# EAGLE library part CEM3330 (library CEM)
CEM 3330 dual VCA
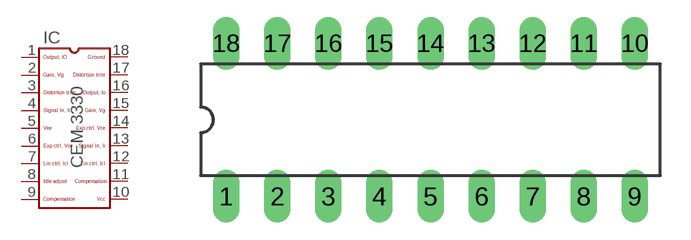
[diagram p3: symbol with the pads of DIL18; footprint DIL18]

Designator prefix IC

## CEM3330  [DIL18]
1  1  out
2  2
3  3
4  4  in
5  5  pwr
6  6
7  7
8  8
9  9
10  10  pwr
11  11
12  12
13  13  in
14  14
15  15
16  16  out
17  17
18  18  pwr

## Footprint DIL18 (pad centres in mm)
Dual In Line 18
drill 0.813 long: 1 -10.16,-3.81; 2 -7.62,-3.81; 3 -5.08,-3.81; 4 -2.54,-3.81; 5 0,-3.81; 6 2.54,-3.81; 7 5.08,-3.81; 8 7.62,-3.81; 9 10.16,-3.81; 10 10.16,3.81; 11 7.62,3.81; 12 5.08,3.81; 13 2.54,3.81; 14 0,3.81; 15 -2.54,3.81; 16 -5.08,3.81; 17 -7.62,3.81; 18 -10.16,3.81